# EAGLE library part 750315038 (library wurth_electronics_midcom_inc_v2-1)
Package Style: PQ2020 Mounting: THT Pins: 10 pins Bobbin: 070-6369 Best pinouts for production vary per application. Please contact Wurth Electronics Midcom, Inc. for assistance with your custom design. Website: Wurth Electronics Midcom <http://www.we-online.com/midcom> Contact us Wurth Electronics Midcom, Inc. 121 Airport Dr. Watertown, SD 57201 Phone: (605) 886-4385 Fax: (605) 886-4486 E-Mail: midcom@we-online.com
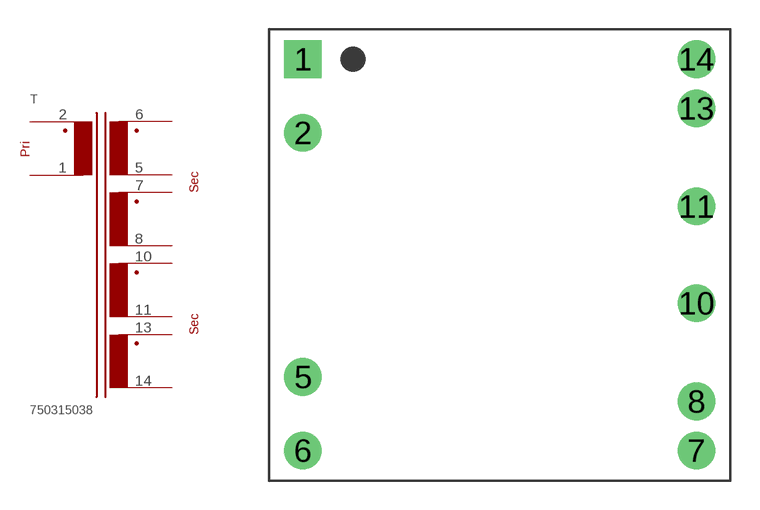
[diagram p152: symbol with the pads of PQ2020_THT_V_10PIN_(6369); footprint PQ2020_THT_V_10PIN_(6369)]

Designator prefix T

## 750315038  [PQ2020_THT_V_10PIN_(6369)]
1  1  pas
2  2  pas
5  5  pas
6  6  pas
7  7  pas
8  8  pas
10  10  pas
11  11  pas
13  13  pas
14  14  pas

## Footprint PQ2020_THT_V_10PIN_(6369) (pad centres in mm)
Package Style: PQ2020 Mounting: THT Pins: 14 Bobbin: 070-6369
drill 1.295 square: 1 -10.173,10.122
drill 1.295: 2 -10.173,6.312; 5 -10.173,-6.312; 6 -10.173,-10.122; 7 10.173,-10.122; 8 10.173,-7.582; 10 10.173,-2.502; 11 10.173,2.502; 13 10.173,7.582; 14 10.173,10.122